# Altium integrated library Vishay Draloric Ceramic Tubular Capacitor.IntLib: 94 symbols (part 2 of 2)
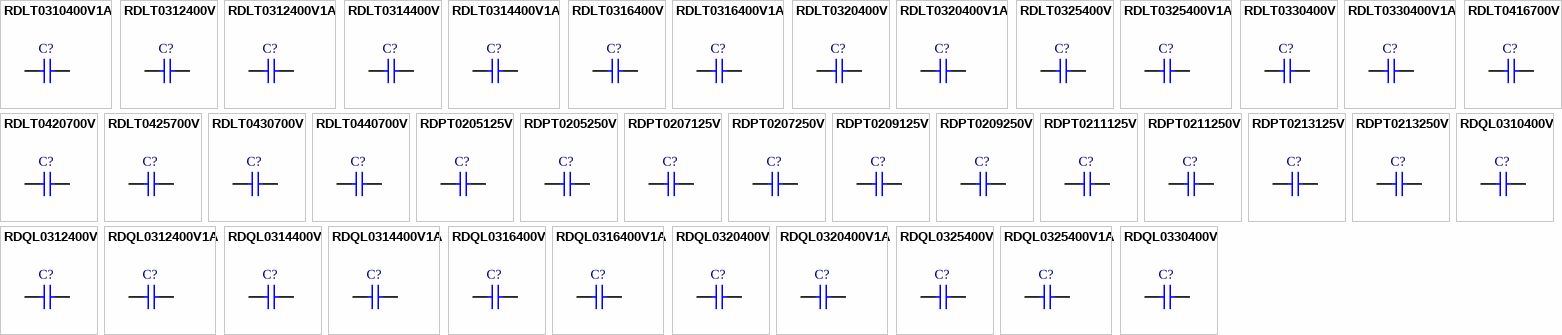
[diagram p3: symbols RDLT0310400V1A to RDQL0330400V]

## RDQL0316400V
designator C?
Ceramic Singlelayer Tubular Capacitor: 400V with Controlled Short-term Stability (KzK), 16mm tube length; Note: See Datasheet for other packages & tolerances; Value: 2pF; Published: 17-Dec-2003; DatasheetDocument: 3-Sep-2000; PackageReference: CAPRT13.5-17X3.5; Publisher: Altium Limited; ComponentLink1Description: Manufacturer Link; ComponentLink1URL: http://www.vishay.com/; ComponentLink2Description: Datasheet; ComponentLink2URL: http://www.vishay.com/docs/22028/rdq.pdf
footprint CAPRT13.5-17X3.5 (Capacitor, Ceramic, Thu-Hole, Tubular; Body 17 x 3.5 mm (LxDia. max) Pin Spacing 13.5 mm (typ))
simulation model CAP (Capacitor)
signal-integrity model Cap
pins: 1, 2

## RDQL0316400V1A
designator C?
Ceramic Singlelayer Tubular Capacitor: 400V with Controlled Short-term Stability (KzK) and Narrowed ac-tolerance (Class 1A), 16mm tube length; Note: See Datasheet for other packages & tolerances; Value: 2pF; Published: 17-Dec-2003; DatasheetDocument: 3-Sep-2000; PackageReference: CAPRT13.5-17X3.5; Publisher: Altium Limited; Note: Narrowed AC-tolerance (Class 1A); ComponentLink1Description: Manufacturer Link; ComponentLink1URL: http://www.vishay.com/; ComponentLink2Description: Datasheet; ComponentLink2URL: http://www.vishay.com/docs/22028/rdq.pdf
footprint CAPRT13.5-17X3.5 (Capacitor, Ceramic, Thu-Hole, Tubular; Body 17 x 3.5 mm (LxDia. max) Pin Spacing 13.5 mm (typ))
simulation model CAP (Capacitor)
signal-integrity model Cap
pins: 1, 2

## RDQL0320400V
designator C?
Ceramic Singlelayer Tubular Capacitor: 400V with Controlled Short-term Stability (KzK), 20mm tube length; Note: See Datasheet for other packages & tolerances; Value: 2pF; Published: 17-Dec-2003; DatasheetDocument: 3-Sep-2000; PackageReference: CAPRT17.5-21X3.5; Publisher: Altium Limited; ComponentLink1Description: Manufacturer Link; ComponentLink1URL: http://www.vishay.com/; ComponentLink2Description: Datasheet; ComponentLink2URL: http://www.vishay.com/docs/22028/rdq.pdf
footprint CAPRT17.5-21X3.5 (Capacitor, Ceramic, Thu-Hole, Tubular; Body 21 x 3.5 mm (LxDia. max) Pin Spacing 17.5 mm (typ))
simulation model CAP (Capacitor)
signal-integrity model Cap
pins: 1, 2

## RDQL0320400V1A
designator C?
Ceramic Singlelayer Tubular Capacitor: 400V with Controlled Short-term Stability (KzK) and Narrowed ac-tolerance (Class 1A), 20mm tube length; Note: See Datasheet for other packages & tolerances; Value: 2pF; Published: 17-Dec-2003; DatasheetDocument: 3-Sep-2000; PackageReference: CAPRT17.5-21X3.5; Publisher: Altium Limited; Note: Narrowed AC-tolerance (Class 1A); ComponentLink1Description: Manufacturer Link; ComponentLink1URL: http://www.vishay.com/; ComponentLink2Description: Datasheet; ComponentLink2URL: http://www.vishay.com/docs/22028/rdq.pdf
footprint CAPRT17.5-21X3.5 (Capacitor, Ceramic, Thu-Hole, Tubular; Body 21 x 3.5 mm (LxDia. max) Pin Spacing 17.5 mm (typ))
simulation model CAP (Capacitor)
signal-integrity model Cap
pins: 1, 2

## RDQL0325400V
designator C?
Ceramic Singlelayer Tubular Capacitor: 400V with Controlled Short-term Stability (KzK), 25mm tube length; Note: See Datasheet for other packages & tolerances; Value: 2pF; Published: 17-Dec-2003; DatasheetDocument: 3-Sep-2000; PackageReference: CAPRT22.5-26X3.5; Publisher: Altium Limited; ComponentLink1Description: Manufacturer Link; ComponentLink1URL: http://www.vishay.com/; ComponentLink2Description: Datasheet; ComponentLink2URL: http://www.vishay.com/docs/22028/rdq.pdf
footprint CAPRT22.5-26X3.5 (Capacitor, Ceramic, Thu-Hole, Tubular; Body 26 x 3.5 mm (LxDia. max) Pin Spacing 22.5 mm (typ))
simulation model CAP (Capacitor)
signal-integrity model Cap
pins: 1, 2

## RDQL0325400V1A
designator C?
Ceramic Singlelayer Tubular Capacitor: 400V with Controlled Short-term Stability (KzK) and Narrowed ac-tolerance (Class 1A), 25mm tube length; Note: See Datasheet for other packages & tolerances; Value: 2pF; Published: 17-Dec-2003; DatasheetDocument: 3-Sep-2000; PackageReference: CAPRT22.5-26X3.5; Publisher: Altium Limited; Note: Narrowed AC-tolerance (Class 1A); ComponentLink1Description: Manufacturer Link; ComponentLink1URL: http://www.vishay.com/; ComponentLink2Description: Datasheet; ComponentLink2URL: http://www.vishay.com/docs/22028/rdq.pdf
footprint CAPRT22.5-26X3.5 (Capacitor, Ceramic, Thu-Hole, Tubular; Body 26 x 3.5 mm (LxDia. max) Pin Spacing 22.5 mm (typ))
simulation model CAP (Capacitor)
signal-integrity model Cap
pins: 1, 2

## RDQL0330400V
designator C?
Ceramic Singlelayer Tubular Capacitor: 400V with Controlled Short-term Stability (KzK), 30mm tube length; Note: See Datasheet for other packages & tolerances; Value: 2pF; Published: 17-Dec-2003; DatasheetDocument: 3-Sep-2000; PackageReference: CAPRT27.5-31X3.5; Publisher: Altium Limited; ComponentLink1Description: Manufacturer Link; ComponentLink1URL: http://www.vishay.com/; ComponentLink2Description: Datasheet; ComponentLink2URL: http://www.vishay.com/docs/22028/rdq.pdf
footprint CAPRT27.5-31X3.5 (Capacitor, Ceramic, Thu-Hole, Tubular; Body 31 x 3.5 mm (LxDia. max) Pin Spacing 27.5 mm (typ))
simulation model CAP (Capacitor)
signal-integrity model Cap
pins: 1, 2

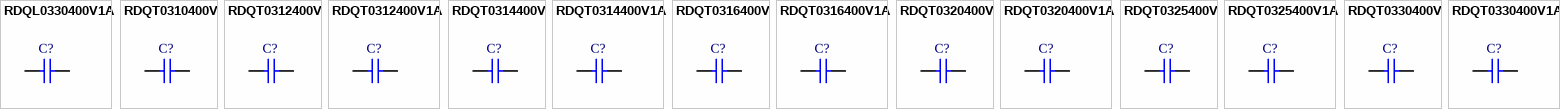
[diagram p2: symbols RDQL0330400V1A to RDQT0330400V1A]

## RDQL0330400V1A
designator C?
Ceramic Singlelayer Tubular Capacitor: 400V with Controlled Short-term Stability (KzK) and Narrowed ac-tolerance (Class 1A), 30mm tube length; Note: See Datasheet for other packages & tolerances; Value: 2pF; Published: 17-Dec-2003; DatasheetDocument: 3-Sep-2000; PackageReference: CAPRT27.5-31X3.5; Publisher: Altium Limited; Note: Narrowed AC-tolerance (Class 1A); ComponentLink1Description: Manufacturer Link; ComponentLink1URL: http://www.vishay.com/; ComponentLink2Description: Datasheet; ComponentLink2URL: http://www.vishay.com/docs/22028/rdq.pdf
footprint CAPRT27.5-31X3.5 (Capacitor, Ceramic, Thu-Hole, Tubular; Body 31 x 3.5 mm (LxDia. max) Pin Spacing 27.5 mm (typ))
simulation model CAP (Capacitor)
signal-integrity model Cap
pins: 1, 2

## RDQT0310400V
designator C?
Ceramic Singlelayer Tubular Capacitor: 400V with Controlled Short-term Stability (KzK), 10mm tube length; Note: See Datasheet for other packages & tolerances; Value: 2pF; Published: 17-Dec-2003; DatasheetDocument: 3-Sep-2000; PackageReference: CAPRT7.5-12X4.5A; Publisher: Altium Limited; ComponentLink1Description: Manufacturer Link; ComponentLink1URL: http://www.vishay.com/; ComponentLink2Description: Datasheet; ComponentLink2URL: http://www.vishay.com/docs/22028/rdq.pdf
footprint CAPRT7.5-12X4.5A (Capacitor, Ceramic, Thu-Hole, Tubular; Body 12 x 4.5 mm (LxDia. max) Pin Spacing 7.5 mm (typ))
simulation model CAP (Capacitor)
signal-integrity model Cap
pins: 1, 2

## RDQT0312400V
designator C?
Ceramic Singlelayer Tubular Capacitor: 400V with Controlled Short-term Stability (KzK), 12mm tube length; Note: See Datasheet for other packages & tolerances; Value: 2pF; Published: 17-Dec-2003; DatasheetDocument: 3-Sep-2000; PackageReference: CAPRT9.5-14X4.5; Publisher: Altium Limited; ComponentLink1Description: Manufacturer Link; ComponentLink1URL: http://www.vishay.com/; ComponentLink2Description: Datasheet; ComponentLink2URL: http://www.vishay.com/docs/22028/rdq.pdf
footprint CAPRT9.5-14X4.5 (Capacitor, Ceramic, Thu-Hole, Tubular; Body 14 x 4.5 mm (LxDia. max) Pin Spacing 9.5 mm (typ))
simulation model CAP (Capacitor)
signal-integrity model Cap
pins: 1, 2

## RDQT0312400V1A
designator C?
Ceramic Singlelayer Tubular Capacitor: 400V with Controlled Short-term Stability (KzK) and Narrowed ac-tolerance (Class 1A), 12mm tube length; Note: See Datasheet for other packages & tolerances; Value: 2pF; Published: 17-Dec-2003; DatasheetDocument: 3-Sep-2000; PackageReference: CAPRT9.5-14X4.5; Publisher: Altium Limited; Note: Narrowed AC-tolerance (Class 1A); ComponentLink1Description: Manufacturer Link; ComponentLink1URL: http://www.vishay.com/; ComponentLink2Description: Datasheet; ComponentLink2URL: http://www.vishay.com/docs/22028/rdq.pdf
footprint CAPRT9.5-14X4.5 (Capacitor, Ceramic, Thu-Hole, Tubular; Body 14 x 4.5 mm (LxDia. max) Pin Spacing 9.5 mm (typ))
simulation model CAP (Capacitor)
signal-integrity model Cap
pins: 1, 2

## RDQT0314400V
designator C?
Ceramic Singlelayer Tubular Capacitor: 400V with Controlled Short-term Stability (KzK), 14mm tube length; Note: See Datasheet for other packages & tolerances; Value: 2pF; Published: 17-Dec-2003; DatasheetDocument: 3-Sep-2000; PackageReference: CAPRT11.5-16X4.5; Publisher: Altium Limited; ComponentLink1Description: Manufacturer Link; ComponentLink1URL: http://www.vishay.com/; ComponentLink2Description: Datasheet; ComponentLink2URL: http://www.vishay.com/docs/22028/rdq.pdf
footprint CAPRT11.5-16X4.5 (Capacitor, Ceramic, Thu-Hole, Tubular; Body 16 x 4.5 mm (LxDia. max) Pin Spacing 11.5 mm (typ))
simulation model CAP (Capacitor)
signal-integrity model Cap
pins: 1, 2

## RDQT0314400V1A
designator C?
Ceramic Singlelayer Tubular Capacitor: 400V with Controlled Short-term Stability (KzK) and Narrowed ac-tolerance (Class 1A), 14mm tube length; Note: See Datasheet for other packages & tolerances; Value: 2pF; Published: 17-Dec-2003; DatasheetDocument: 3-Sep-2000; PackageReference: CAPRT11.5-16X4.5; Publisher: Altium Limited; Note: Narrowed AC-tolerance (Class 1A); ComponentLink1Description: Manufacturer Link; ComponentLink1URL: http://www.vishay.com/; ComponentLink2Description: Datasheet; ComponentLink2URL: http://www.vishay.com/docs/22028/rdq.pdf
footprint CAPRT11.5-16X4.5 (Capacitor, Ceramic, Thu-Hole, Tubular; Body 16 x 4.5 mm (LxDia. max) Pin Spacing 11.5 mm (typ))
simulation model CAP (Capacitor)
signal-integrity model Cap
pins: 1, 2

## RDQT0316400V
designator C?
Ceramic Singlelayer Tubular Capacitor: 400V with Controlled Short-term Stability (KzK), 16mm tube length; Note: See Datasheet for other packages & tolerances; Value: 2pF; Published: 17-Dec-2003; DatasheetDocument: 3-Sep-2000; PackageReference: CAPRT13.5-18X4.5; Publisher: Altium Limited; ComponentLink1Description: Manufacturer Link; ComponentLink1URL: http://www.vishay.com/; ComponentLink2Description: Datasheet; ComponentLink2URL: http://www.vishay.com/docs/22028/rdq.pdf
footprint CAPRT13.5-18X4.5 (Capacitor, Ceramic, Thu-Hole, Tubular; Body 18 x 4.5 mm (LxDia. max) Pin Spacing 13.5 mm (typ))
simulation model CAP (Capacitor)
signal-integrity model Cap
pins: 1, 2

## RDQT0316400V1A
designator C?
Ceramic Singlelayer Tubular Capacitor: 400V with Controlled Short-term Stability (KzK) and Narrowed ac-tolerance (Class 1A), 16mm tube length; Note: See Datasheet for other packages & tolerances; Value: 2pF; Published: 17-Dec-2003; DatasheetDocument: 3-Sep-2000; PackageReference: CAPRT13.5-18X4.5; Publisher: Altium Limited; Note: Narrowed AC-tolerance (Class 1A); ComponentLink1Description: Manufacturer Link; ComponentLink1URL: http://www.vishay.com/; ComponentLink2Description: Datasheet; ComponentLink2URL: http://www.vishay.com/docs/22028/rdq.pdf
footprint CAPRT13.5-18X4.5 (Capacitor, Ceramic, Thu-Hole, Tubular; Body 18 x 4.5 mm (LxDia. max) Pin Spacing 13.5 mm (typ))
simulation model CAP (Capacitor)
signal-integrity model Cap
pins: 1, 2

## RDQT0320400V
designator C?
Ceramic Singlelayer Tubular Capacitor: 400V with Controlled Short-term Stability (KzK), 20mm tube length; Note: See Datasheet for other packages & tolerances; Value: 2pF; Published: 17-Dec-2003; DatasheetDocument: 3-Sep-2000; PackageReference: CAPRT17.5-22X4.5; Publisher: Altium Limited; ComponentLink1Description: Manufacturer Link; ComponentLink1URL: http://www.vishay.com/; ComponentLink2Description: Datasheet; ComponentLink2URL: http://www.vishay.com/docs/22028/rdq.pdf
footprint CAPRT17.5-22X4.5 (Capacitor, Ceramic, Thu-Hole, Tubular; Body 22 x 4.5 mm (LxDia. max) Pin Spacing 17.5 mm (typ))
simulation model CAP (Capacitor)
signal-integrity model Cap
pins: 1, 2

## RDQT0320400V1A
designator C?
Ceramic Singlelayer Tubular Capacitor: 400V with Controlled Short-term Stability (KzK) and Narrowed ac-tolerance (Class 1A), 20mm tube length; Note: See Datasheet for other packages & tolerances; Value: 2pF; Published: 17-Dec-2003; DatasheetDocument: 3-Sep-2000; PackageReference: CAPRT17.5-22X4.5; Publisher: Altium Limited; Note: Narrowed AC-tolerance (Class 1A); ComponentLink1Description: Manufacturer Link; ComponentLink1URL: http://www.vishay.com/; ComponentLink2Description: Datasheet; ComponentLink2URL: http://www.vishay.com/docs/22028/rdq.pdf
footprint CAPRT17.5-22X4.5 (Capacitor, Ceramic, Thu-Hole, Tubular; Body 22 x 4.5 mm (LxDia. max) Pin Spacing 17.5 mm (typ))
simulation model CAP (Capacitor)
signal-integrity model Cap
pins: 1, 2

## RDQT0325400V
designator C?
Ceramic Singlelayer Tubular Capacitor: 400V with Controlled Short-term Stability (KzK), 25mm tube length; Note: See Datasheet for other packages & tolerances; Value: 2pF; Published: 17-Dec-2003; DatasheetDocument: 3-Sep-2000; PackageReference: CAPRT22.5-27X4.5; Publisher: Altium Limited; ComponentLink1Description: Manufacturer Link; ComponentLink1URL: http://www.vishay.com/; ComponentLink2Description: Datasheet; ComponentLink2URL: http://www.vishay.com/docs/22028/rdq.pdf
footprint CAPRT22.5-27X4.5 (Capacitor, Ceramic, Thu-Hole, Tubular; Body 27 x 4.5 mm (LxDia. max) Pin Spacing 22.5 mm (typ))
simulation model CAP (Capacitor)
signal-integrity model Cap
pins: 1, 2

## RDQT0325400V1A
designator C?
Ceramic Singlelayer Tubular Capacitor: 400V with Controlled Short-term Stability (KzK) and Narrowed ac-tolerance (Class 1A), 25mm tube length; Note: See Datasheet for other packages & tolerances; Value: 2pF; Published: 17-Dec-2003; DatasheetDocument: 3-Sep-2000; PackageReference: CAPRT22.5-27X4.5; Publisher: Altium Limited; Note: Narrowed AC-tolerance (Class 1A); ComponentLink1Description: Manufacturer Link; ComponentLink1URL: http://www.vishay.com/; ComponentLink2Description: Datasheet; ComponentLink2URL: http://www.vishay.com/docs/22028/rdq.pdf
footprint CAPRT22.5-27X4.5 (Capacitor, Ceramic, Thu-Hole, Tubular; Body 27 x 4.5 mm (LxDia. max) Pin Spacing 22.5 mm (typ))
simulation model CAP (Capacitor)
signal-integrity model Cap
pins: 1, 2

## RDQT0330400V
designator C?
Ceramic Singlelayer Tubular Capacitor: 400V with Controlled Short-term Stability (KzK), 30mm tube length; Note: See Datasheet for other packages & tolerances; Value: 2pF; Published: 17-Dec-2003; DatasheetDocument: 3-Sep-2000; PackageReference: CAPRT27.5-32X4.5; Publisher: Altium Limited; ComponentLink1Description: Manufacturer Link; ComponentLink1URL: http://www.vishay.com/; ComponentLink2Description: Datasheet; ComponentLink2URL: http://www.vishay.com/docs/22028/rdq.pdf
footprint CAPRT27.5-32X4.5 (Capacitor, Ceramic, Thu-Hole, Tubular; Body 32 x 4.5 mm (LxDia. max) Pin Spacing 27.5 mm (typ))
simulation model CAP (Capacitor)
signal-integrity model Cap
pins: 1, 2

## RDQT0330400V1A
designator C?
Ceramic Singlelayer Tubular Capacitor: 400V with Controlled Short-term Stability (KzK) and Narrowed ac-tolerance (Class 1A), 30mm tube length; Note: See Datasheet for other packages & tolerances; Value: 2pF; Published: 17-Dec-2003; DatasheetDocument: 3-Sep-2000; PackageReference: CAPRT27.5-32X4.5; Publisher: Altium Limited; Note: Narrowed AC-tolerance (Class 1A); ComponentLink1Description: Manufacturer Link; ComponentLink1URL: http://www.vishay.com/; ComponentLink2Description: Datasheet; ComponentLink2URL: http://www.vishay.com/docs/22028/rdq.pdf
footprint CAPRT27.5-32X4.5 (Capacitor, Ceramic, Thu-Hole, Tubular; Body 32 x 4.5 mm (LxDia. max) Pin Spacing 27.5 mm (typ))
simulation model CAP (Capacitor)
signal-integrity model Cap
pins: 1, 2